# Altium footprint library all_kalex_Library.PcbLib: 234 footprints (part 12 of 15)
Each footprint in its own frame and in the unit in brackets; x right, y up, seen from the top. Pads: shape width x height; smd on the part's side, far side on the other; paste and mask are expansions set on the pad; w line width, h text height; cw(c..) or ccw(c..) is an arc to the next point about the centre after c.
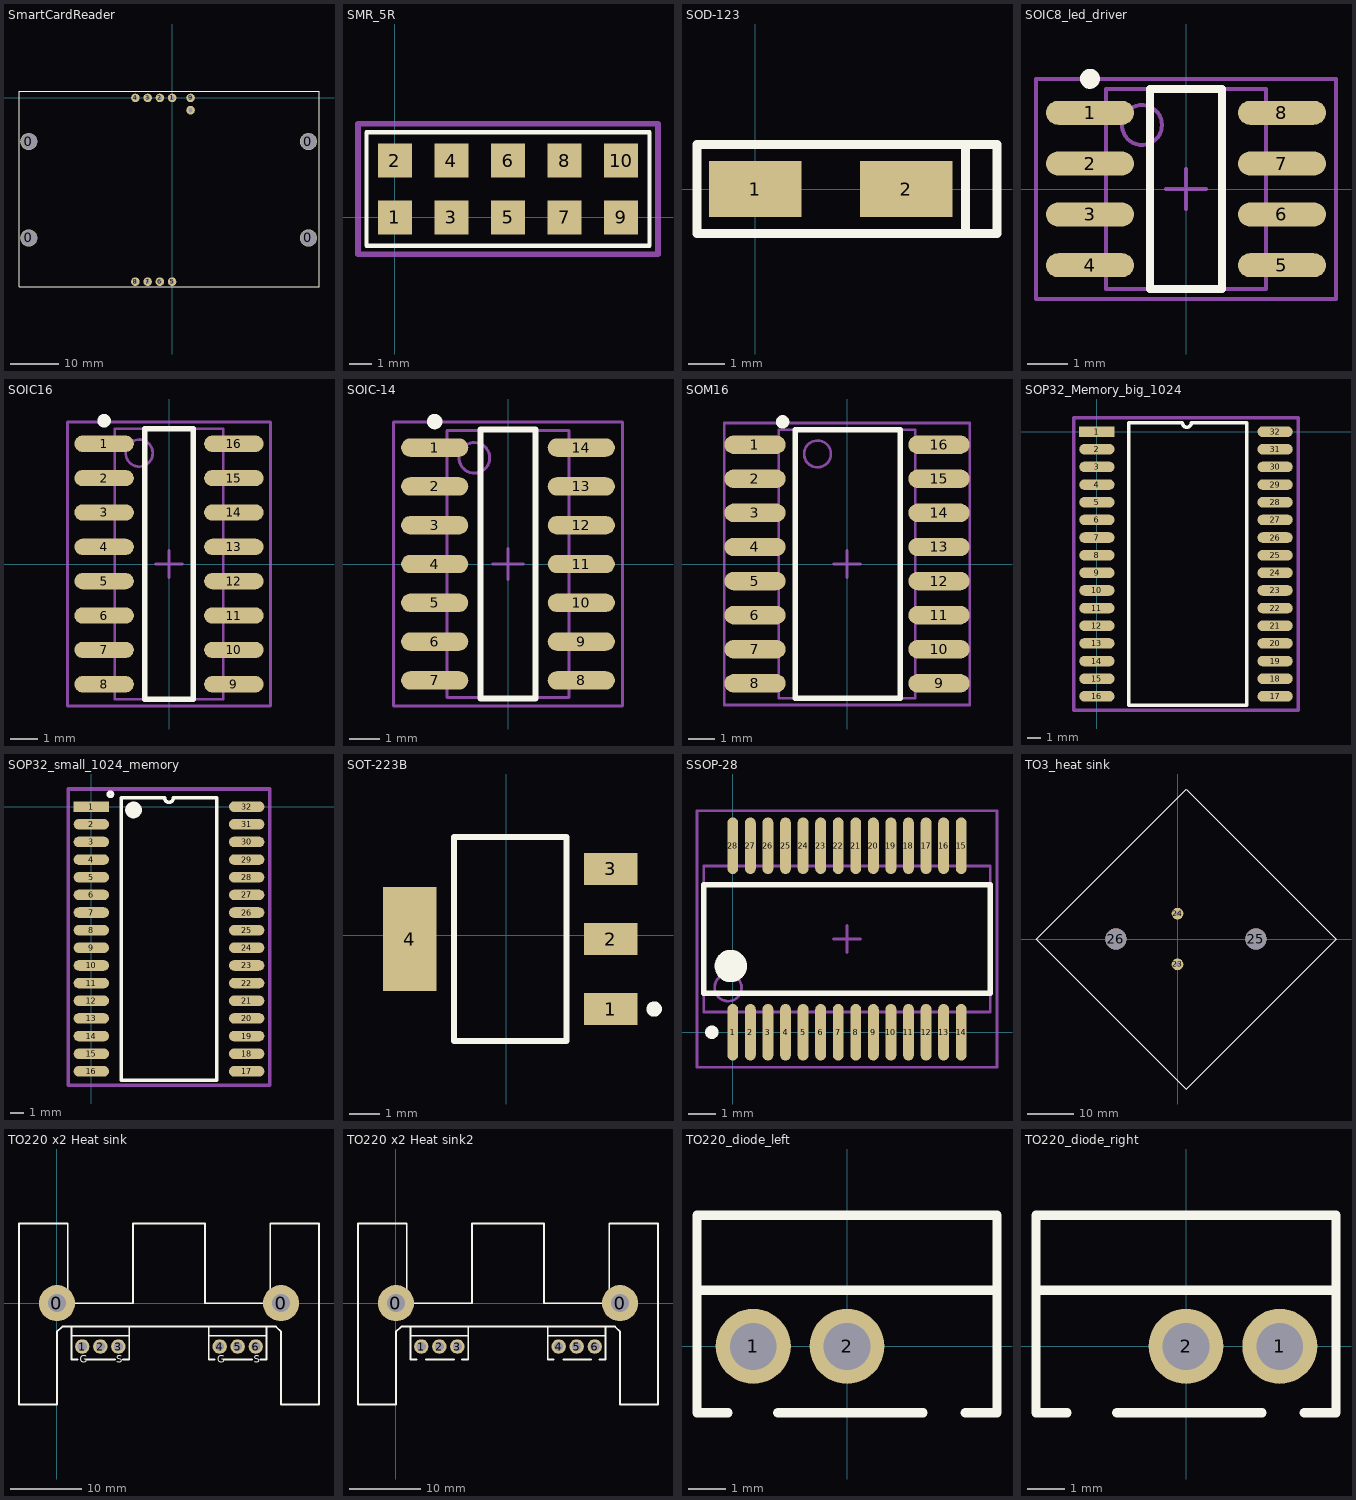
[diagram p11: the footprints below, top view; thin cyan lines are the x and y axes]

## SmartCardReader [mil]
pads (14):
  round 140 hole 129.92 unplated: 0(-1170.87,-1143.7) 0(-1170.87,-356.3) 0(1112.6,-1143.7) 0(1112.6,-356.3)
  round 70 hole 35: 1(0,0) 2(-100,0) 3(-200,0) 4(-300,0) 5(-0.87,-1500) 6(-100.87,-1500) 7(-200.87,-1500) 8(-300.87,-1500) 9(150,0) 10(150,-100)
Top Overlay:
  lines w5: -1250.87,-1543.7 -1250.87,56.3 1199.13,56.3 1199.13,-1543.7 -1250.87,-1543.7

## SMR_5R [mil]
pads (10):
  rect 60x60 smd: 1(0,0) 2(0,100) 3(100,0) 4(100,100) 5(200,0) 6(200,100) 7(300,0) 8(300,100) 9(400,0) 10(400,100)
Top Overlay:
  lines w7.87: -50,-50 450,-50 450,150 -50,150 -50,-50
Mechanical 15:
  lines w10: -65,-65 -65,165 465,165 465,-65 -65,-65

## SOD-123 [mil]
pads (2):
  rect 100x60 smd: 1(0,0) 2(163,0)
Top Overlay:
  lines w10: 227,-48 261,-48 261,48 227,48 ; 227,-48 -63,-48 -63,48 227,48 ; 227,-48 227,48
3D body: height 68.9, standoff 0, extent -31,-43 195,44

## SOIC8_led_driver [mm]
pads (8):
  oval 2.2x0.6 smd: 1(-2.4,1.905) 2(-2.4,0.635) 3(-2.4,-0.635) 4(-2.4,-1.905) 5(2.4,-1.905) 6(2.4,-0.635) 7(2.4,0.635) 8(2.4,1.905)
Top Overlay:
  circle w0.25: c-2.4,2.755 r0.125
  lines w0.2: -0.9,-2.5 -0.9,2.5 0.9,2.5 0.9,-2.5 -0.9,-2.5
Mechanical 13:
  circle w0.1: c-1.1,1.6 r0.5
  lines w0.1: -2,-2.5 -2,2.5 2,2.5 2,-2.5 -2,-2.5
Mechanical 15:
  lines w0.1: -0.5,0 0.5,0 ; 0,-0.5 0,0.5 ; -3.75,-2.75 -3.75,2.75 3.75,2.75 3.75,-2.75 -3.75,-2.75
3D body: height 1.75, standoff 0, extent -2,-2.5 2,2.5

## SOIC16 [mm]
height 5.08
pads (16):
  oval 2.2x0.6 smd: 1(-2.4,4.445) 2(-2.4,3.175) 3(-2.4,1.905) 4(-2.4,0.635) 5(-2.4,-0.635) 6(-2.4,-1.905) 7(-2.4,-3.175) 8(-2.4,-4.445) 9(2.4,-4.445) 10(2.4,-3.175) 11(2.4,-1.905) 12(2.4,-0.635) 13(2.4,0.635) 14(2.4,1.905) 15(2.4,3.175) 16(2.4,4.445)
Top Overlay:
  circle w0.25: c-2.4,5.295 r0.125
  lines w0.2: -0.9,-5 0.9,-5 0.9,5 -0.9,5 -0.9,-5
Mechanical 13:
  circle w0.1: c-1.1,4.1 r0.5
  lines w0.1: -2,-5 2,-5 2,5 -2,5 -2,-5
Mechanical 15:
  lines w0.1: -0.5,0 0.5,0 ; 0,-0.5 0,0.5 ; -3.75,-5.25 3.75,-5.25 3.75,5.25 -3.75,5.25 -3.75,-5.25
3D body: height 1.75, standoff 0, extent -2,-5 2,5

## SOIC-14 [mm]
pads (14):
  oval 2.2x0.6 smd: 1(-2.4,3.81) 2(-2.4,2.54) 3(-2.4,1.27) 4(-2.4,0) 5(-2.4,-1.27) 6(-2.4,-2.54) 7(-2.4,-3.81) 8(2.4,-3.81) 9(2.4,-2.54) 10(2.4,-1.27) 11(2.4,0) 12(2.4,1.27) 13(2.4,2.54) 14(2.4,3.81)
Top Overlay:
  circle w0.25: c-2.4,4.66 r0.125
  lines w0.2: -0.9,-4.4 -0.9,4.4 0.9,4.4 0.9,-4.4 -0.9,-4.4
Mechanical 13:
  circle w0.1: c-1.1,3.475 r0.5
  lines w0.1: -2,-4.375 -2,4.375 2,4.375 2,-4.375 -2,-4.375
Mechanical 15:
  lines w0.1: -0.5,0 0.5,0 ; 0,-0.5 0,0.5 ; -3.75,-4.65 -3.75,4.65 3.75,4.65 3.75,-4.65 -3.75,-4.65
3D body: height 1.75, standoff 0, extent -2,-4.375 2,4.375

## SOM16 [mil] "network_resistor"
height 200
pads (16):
  oval 90x27 smd: 1(-135,175) 2(-135,125) 3(-135,75) 4(-135,25) 5(-135,-25) 6(-135,-75) 7(-135,-125) 8(-135,-175) 9(135,-175) 10(135,-125) 11(135,-75) 12(135,-25) 13(135,25) 14(135,75) 15(135,125) 16(135,175)
Top Overlay:
  circle w9.84: c-94.49,208.46 r4.92
  lines w7.87: -76,-196.85 78,-196.85 78,196.85 -76,196.85 -76,-196.85
Mechanical 13:
  circle w3.94: c-43.31,161.42 r19.68
  lines w3.94: -100,-196.85 100,-196.85 100,196.85 -100,196.85 -100,-196.85
Mechanical 15:
  lines w3.94: -19.69,0 19.68,0 ; 0,-19.69 0,19.68 ; -180,-206.69 180,-206.69 180,206.69 -180,206.69 -180,-206.69
3D body: height 68.9, standoff 0, extent -100,-200 100,200

## SOP32_Memory_big_1024 [mil]
pads (32):
  rect 100x30 smd: 1(0,0)
  oval 100x30 smd: 2(0,-50) 3(0,-100) 4(0,-150) 5(0,-200) 6(0,-250) 7(0,-300) 8(0,-350) 9(0,-400) 10(0,-450) 11(0,-500) 12(0,-550) 13(0,-600) 14(0,-650) 15(0,-700) 16(0,-750) 17(505,-750) 18(505,-700) 19(505,-650) 20(505,-600) 21(505,-550) 22(505,-500) 23(505,-450) 24(505,-400) 25(505,-350) 26(505,-300) 27(505,-250) 28(505,-200) 29(505,-150) 30(505,-100) 31(505,-50) 32(505,0)
Top Overlay:
  lines w10: 90,-775 425,-775 425,25 267.5,25 cw(c255,25) 242.5,25 90,25 90,-775
Mechanical 15:
  lines w10: -65,-790 -65,40 570,40 570,-790 -65,-790
3D body: height 104.33, standoff 0, extent 45,-775 460,25

## SOP32_small_1024_memory [mil]
pads (32):
  rect 100x30 smd: 1(0,0)
  oval 100x30 smd: 2(0,-50) 3(0,-100) 4(0,-150) 5(0,-200) 6(0,-250) 7(0,-300) 8(0,-350) 9(0,-400) 10(0,-450) 11(0,-500) 12(0,-550) 13(0,-600) 14(0,-650) 15(0,-700) 16(0,-750) 17(440,-750) 18(440,-700) 19(440,-650) 20(440,-600) 21(440,-550) 22(440,-500) 23(440,-450) 24(440,-400) 25(440,-350) 26(440,-300) 27(440,-250) 28(440,-200) 29(440,-150) 30(440,-100) 31(440,-50) 32(440,0)
Top Overlay:
  circle w23.62: c119.37,-9.37 r11.81
  circle w9.84: c54,35 r6
  lines w10: 85,-775 355,-775 355,25 232.5,25 cw(c220,25) 207.5,25 85,25 85,-775
Mechanical 15:
  lines w10: -65,-790 -65,50 505,50 505,-790 -65,-790
3D body: height 104.33, standoff 0, extent 45,-775 395,25

## SOT-223B [mm] "FAR-1112S"
pads (4):
  rect 1.75x1.05 smd: 1(3.427,-2.427) 2(3.427,-0.127) 3(3.427,2.173)
  rect 1.75x3.4 smd: 4(-3.173,-0.127)
Top Overlay:
  circle w0.25: c4.852,-2.427 r0.125
  lines w0.2: -1.723,-3.477 -1.723,3.223 1.977,3.223 1.977,-3.477 -1.723,-3.477

## SSOP-28 [mm] "FT232"
pads (28):
  oval 0.4x2.1 smd: 1(0,0) 2(0.65,0) 3(1.3,0) 4(1.95,0) 5(2.6,0) 6(3.25,0) 7(3.9,0) 8(4.55,0) 9(5.2,0) 10(5.85,0) 11(6.5,0) 12(7.15,0) 13(7.8,0) 14(8.45,0) 15(8.45,6.9) 16(7.8,6.9) 17(7.15,6.9) 18(6.5,6.9) 19(5.85,6.9) 20(5.2,6.9) 21(4.55,6.9) 22(3.9,6.9) 23(3.25,6.9) 24(2.6,6.9) 25(1.95,6.9) 26(1.3,6.9) 27(0.65,6.9) 28(0,6.9)
Top Overlay:
  circle w0.6: c-0.075,2.45 r0.3
  circle w0.25: c-0.775,0 r0.125
  lines w0.2: -1.075,1.45 -1.075,5.45 9.525,5.45 9.525,1.45 -1.075,1.45
Mechanical 13:
  circle w0.1: c-0.175,1.65 r0.5
  lines w0.1: -1.075,0.75 -1.075,6.15 9.525,6.15 9.525,0.75 -1.075,0.75
Mechanical 15:
  lines w0.1: 3.725,3.45 4.725,3.45 ; 4.225,2.95 4.225,3.95 ; -1.325,-1.3 -1.325,8.2 9.775,8.2 9.775,-1.3 -1.325,-1.3
3D body: height 2, standoff 0, extent -1.075,0.75 9.525,6.15

## TO3_heat sink [mil]
pads (4):
  round 100 hole 40 unplated: 23(0,-215) 24(0,215)
  round 180 hole 180 unplated: 25(665,0) 26(-522,0)
Top Overlay:
  lines w10: -1200,0 72,-1272 1344,0 72,1272 -1200,0

## TO220 x2 Heat sink [mil]
pads (8):
  round 200 hole 100: 0(0,0) 0(1240,0)
  round 80 hole 50: 1(140,-240) 2(240,-240) 3(340,-240) 4(900,-240) 5(1000,-240) 6(1100,-240)
Top Overlay:
  lines w10: 80,-180 400,-180 ; 80,-130 80,-311 113,-311 ; 166,-311 321,-311 ; 366,-311 400,-311 400,-130 ; 840,-180 1160,-180 ; 873,-311 840,-311 840,-130 ; 926,-311 1081,-311 ; 1126,-311 1160,-311 1160,-130 ; 1147,-130 1212,-130 1240,-158 1240,-560 1450,-560 1450,440 1180,440 1180,0 820,0 820,440 420,440 420,0 60,0 60,440 -210,440 -210,-560 0,-560 0,-159 29,-130 81,-130 400,-130 ; 1160,-133 1157,-130 840,-130 ; 400,-130 840,-130
  text "S" at 1089,-330 h40
  text "G" at 887,-331 h40
  text "S" at 329,-330 h40
  text "G" at 127,-331 h40

## TO220 x2 Heat sink2 [mil]
pads (8):
  round 200 hole 100: 0(0,0) 0(1240,0)
  round 80 hole 50: 1(140,-240) 2(240,-240) 3(340,-240) 4(900,-240) 5(1000,-240) 6(1100,-240)
Top Overlay:
  lines w10: 80,-180 400,-180 ; 80,-130 80,-311 113,-311 ; 166,-311 321,-311 ; 366,-311 400,-311 400,-130 ; 840,-180 1160,-180 ; 873,-311 840,-311 840,-130 ; 926,-311 1081,-311 ; 1126,-311 1160,-311 1160,-130 ; 1147,-130 1212,-130 1240,-158 1240,-560 1450,-560 1450,440 1180,440 1180,0 820,0 820,440 420,440 420,0 60,0 60,440 -210,440 -210,-560 0,-560 0,-159 29,-130 81,-130 400,-130 ; 1160,-133 1157,-130 840,-130 ; 400,-130 840,-130

## TO220_diode_left [mil]
pads (2):
  round 80 hole 50: 1(-100,0) 2(0,0)
Top Overlay:
  lines w10: -160,60 160,60 ; -127,-71 -160,-71 -160,140 160,140 160,-71 126,-71 ; -74,-71 81,-71

## TO220_diode_right [mil]
pads (2):
  round 80 hole 50: 1(100,0) 2(0,0)
Top Overlay:
  lines w10: -160,60 160,60 ; -127,-71 -160,-71 -160,140 160,140 160,-71 126,-71 ; -74,-71 81,-71